# EAGLE library part 87760-18 (library con-molex-milli-grid)
HEADER
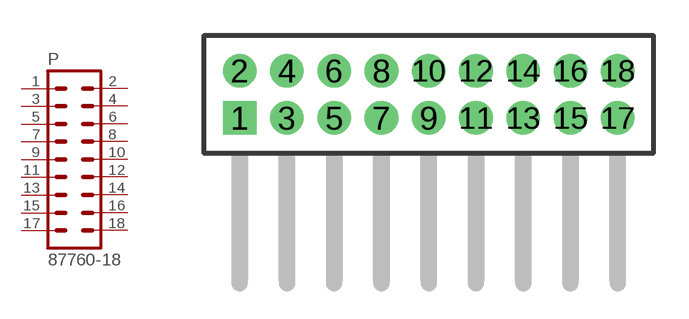
[diagram p39: symbol with the pads of 87760-18; footprint 87760-18]

Designator prefix P

## 87760-18  [87760-18]
1  1  pas
2  2  pas
3  3  pas
4  4  pas
5  5  pas
6  6  pas
7  7  pas
8  8  pas
9  9  pas
10  10  pas
11  11  pas
12  12  pas
13  13  pas
14  14  pas
15  15  pas
16  16  pas
17  17  pas
18  18  pas

## Footprint 87760-18 (pad centres in mm)
HEADER Dual Row, Right Angle
drill 0.914 square: 1 -8,-1
drill 0.914: 2 -8,1; 3 -6,-1; 4 -6,1; 5 -4,-1; 6 -4,1; 7 -2,-1; 8 -2,1; 9 0,-1; 10 0,1; 11 2,-1; 12 2,1; 13 4,-1; 14 4,1; 15 6,-1; 16 6,1; 17 8,-1; 18 8,1